# EAGLE library part 615008140121 (library WR-MJ)
WR-MJ Cat 3 Modular Jacks – THT Characteristics Shieldingless and Shielded with EMI-Spring option Optional LEDs in various sequences Vertical and Horizontal orientation Stacked and assembled configurations Tray Packaging Properties PoE++ Compatible up to 100W (IEEE 802.3bt) UL and cULus-Certified UL94-V0 insulator material Ethernet Category 3 – Category 5 under conditions Applications Networks Internet of Things mart Buildings <https://www.we-online.com/components/media/o863419v209%20multi-WR-MJTH-615002138421.jpg> Details see: www.we-online.com/en/components/products/WR_MJ_MODULAR_JACKS_THT <www.we-online.com/catalog/WR_MJ_MODULAR_JACKS_THT/?utm_source=eagle_model&utm_medium=description_link&utm_campaign=eisos_eagle> Updated by Ella Wu 2023-11-13 2023 (C) Würth Elektronik
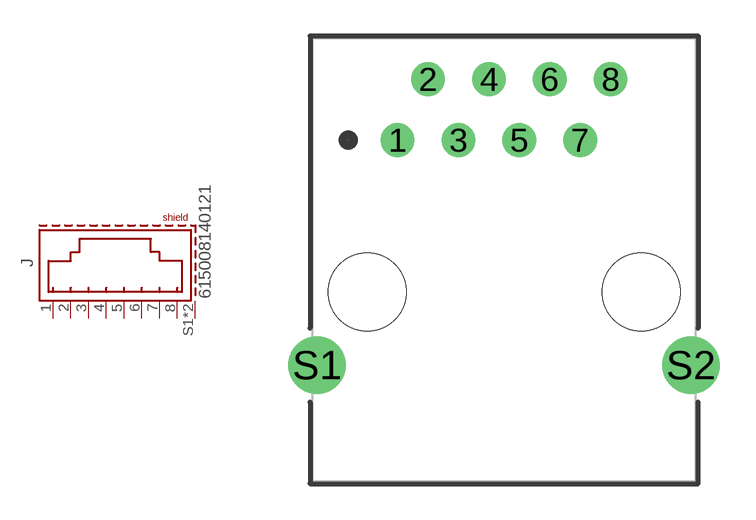
[diagram p2: symbol with the pads of 615008140121; footprint 615008140121]

Designator prefix J

## 615008140121 (APPLICATION-SYSTEM: CAT 3; DATASHEET-URL: https://www.we-online.com/redexpert/spec/615008140121?ae; EMI: No; LED: /; MOUNT: THT; PART-NUMBER: 615008140121; SIZE: Horizontal; TAB: Down; VALUE: 615008140121; XPXC: 8P8C)  [615008140121]
1  8  pas
2  7  pas
3  6  pas
4  5  pas
5  4  pas
6  3  pas
7  2  pas
8  1  pas
S1  SHIELD  pas
S2  SHIELD  pas

## Footprint 615008140121 (pad centres in mm)
WR-MJ Modular Jack Horizontal Shielded Front Grounding Post 8P8C Tab Down THT, 8 pins
drill 0.9: 1 -4.445,6.35; 2 -3.175,8.89; 3 -1.905,6.35; 4 -0.635,8.89; 5 0.635,6.35; 6 1.905,8.89; 7 3.175,6.35; 8 4.445,8.89
drill 1.6: S1 -7.8,-3.05; S2 7.8,-3.05
hole 3.25 at -5.715,0
hole 3.25 at 5.715,0